# EAGLE library part WE-UNIT_E/16/8/5_SCH2 (library Wurth_Power Magnetics_WE-UNIT)
WE-UNIT Off-Line Transformer Characteristics Nominal input voltage: 125–375 VDC (85–265 VAC) Output power 3 W and 9 W Operating temperature: –40 °C to +125 °C Clearance and creepage distance 6 mm min. Insulation test voltage: 4 kVAC, 1 Minute Design compliant to EN 61558-2-16: reinforced insulation; except 749 118 10 xx: Basic insulation Applications Designed for Tiny Switch ICs from Power Integration and NCP101x or 105x of ON Semiconductor For SMPS with universal input from 85 VAC up to 265 VAC The "Value"shown for the Symbol and Packaging is Output Voltage1 Output Current1 <https://katalog.we-online.com/media/images/v2/o14888v209%20Family_WE-Unit_off-line_transformer.jpg> Details see: https://katalog.we-online.com/en/pbs/WE-UNIT#vs_ct:1 Updated by Yingchun,Shan 2019-08-26 2019(C) Wurth Elektronik
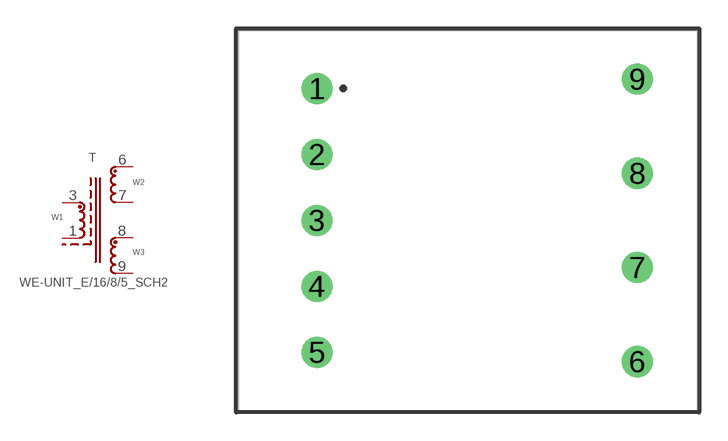
[diagram p0: symbol with the pads of WE-UNIT_E16/8/5; footprint WE-UNIT_E16/8/5]

Designator prefix T

## WE-UNIT_E/16/8/5_SCH2_7491182112 (DATASHEET-URL: https://katalog.we-online.com/pbs/datasheet/7491182112.pdf; FSWITCH: 132kHz; IO2: 0.35A; ISAT: 0.8A; L: 0.9mH; LSMIN: 112uH; N: 9.5:1:1; PART-NUMBER: 7491182112; RDC1: 4.3Ohm; RDC2: 94mOhm; RDC3: 102mOhm; VALUE: 12V 0.35A; VI: 85-265V(AC); VO2: 12V), WE-UNIT_E/16/8/5_SCH2_749118215 (DATASHEET-URL: https://katalog.we-online.com/pbs/datasheet/749118215.pdf; FSWITCH: 132kHz; IO2: 1A; ISAT: 0.85A; L: 0.9mH; LSMIN: 120uH; N: 19:1:1; PART-NUMBER: 749118215; RDC1: 4.3Ohm; RDC2: 28mOhm; RDC3: 28mOhm; VALUE: 5V 1A; VI: 85-265V(AC); VO2: 5V)  [WE-UNIT_E16/8/5]
1  2  pas
3  1  pas
6  6  pas
7  5  pas
8  4  pas
9  3  pas

## Footprint WE-UNIT_E16/8/5 (pad centres in mm)
WE-UNIT Off-Line Transformer Size E16/8/5 THT 9 Pin
drill 1.1: 1 -7,7; 2 -7,3.5; 3 -7,0; 4 -7,-3.5; 5 -7,-7; 6 10,-7.5; 7 10,-2.5; 8 10,2.5; 9 10,7.5